# Altium schematic symbol library DIN_96.SchLib: 1 symbol
Pins are listed as number, name and electrical type; pins without a type are passive.

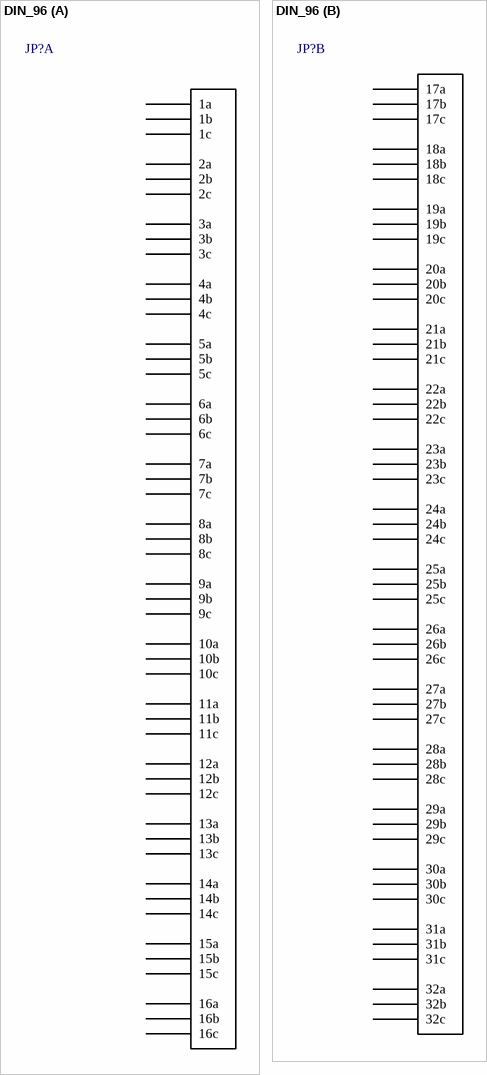
[diagram p0: symbol DIN_96]

## DIN_96
designator JP?
PartNumber: 9-1393644-1; Manufacturer: TE Connectivity
footprint PCN10-96P-2.54DSA
part A pins: 1a, 1b, 1c, 2a, 2b, 2c, 3a, 3b, 3c, 4a, 4b, 4c, 5a, 5b, 5c, 6a, 6b, 6c, 7a, 7b, 7c, 8a, 8b, 8c, 9a, 9b, 9c, 10a, 10b, 10c, 11a, 11b, 11c, 12a, 12b, 12c, 13a, 13b, 13c, 14a, 14b, 14c, 15a, 15b, 15c, 16a, 16b, 16c
part B pins: 17a, 17b, 17c, 18a, 18b, 18c, 19a, 19b, 19c, 20a, 20b, 20c, 21a, 21b, 21c, 22a, 22b, 22c, 23a, 23b, 23c, 24a, 24b, 24c, 25a, 25b, 25c, 26a, 26b, 26c, 27a, 27b, 27c, 28a, 28b, 28c, 29a, 29b, 29c, 30a, 30b, 30c, 31a, 31b, 31c, 32a, 32b, 32c